# EAGLE library part GMSTBA7 (library CON_PHOENIX_508)
PHOENIX
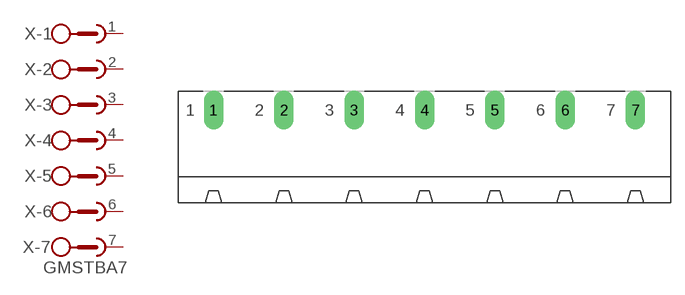
[diagram p1: symbol with the pads of GMSTBA7; footprint GMSTBA7]

Designator prefix X; gates -1=SKB -2=SKB -3=SKB -4=SKB -5=SKB -6=SKB -7=SKBV

## GMSTBA7  [GMSTBA7]
1  -1:1  pas
2  -2:1  pas
3  -3:1  pas
4  -4:1  pas
5  -5:1  pas
6  -6:1  pas
7  -7:1  pas

## Footprint GMSTBA7 (pad centres in mm)
PHOENIX
drill 1.397 long: 1 -22.86,5.08; 2 -15.24,5.08; 3 -7.62,5.08; 4 0,5.08; 5 7.62,5.08; 6 15.24,5.08; 7 22.86,5.08